# EAGLE library part LTC3544 (library linear-technology)
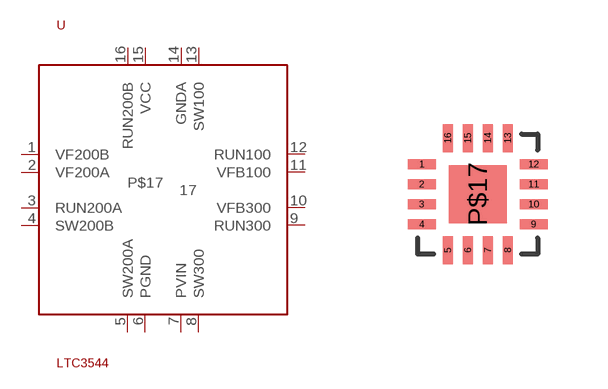
[diagram p23: symbol with the pads of QFN16; footprint QFN16]

Designator prefix -

## LTC3544  [QFN16]
1  VF200B
2  VF200A
3  RUN200A
4  SW200B
5  SW200A
6  PGND
7  PVIN
8  SW300
9  RUN300
10  VFB300
11  VFB100
12  RUN100
13  SW100
14  GNDA
15  VCC
16  RUN200B
P$17  17

## Footprint QFN16 (pad centres in mm)
smd 0.7 x 0.25: 1 -1.4,0.75; 2 -1.4,0.25; 3 -1.4,-0.25; 4 -1.4,-0.75; 9 1.4,-0.75; 10 1.4,-0.25; 11 1.4,0.25; 12 1.4,0.75
smd 0.25 x 0.7: 5 -0.75,-1.4; 6 -0.25,-1.4; 7 0.25,-1.4; 8 0.75,-1.4; 13 0.75,1.4; 14 0.25,1.4; 15 -0.25,1.4; 16 -0.75,1.4
smd 1.45 x 1.45: P$17 0,0